# EAGLE library part CON-DB9M (library Mechanical)
Male DB-9, DTE
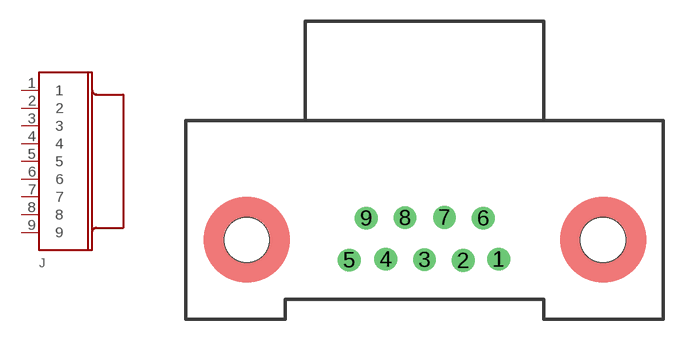
[diagram p15: symbol with the pads of CON-DB9M; footprint CON-DB9M]

Designator prefix J

## CON-DB9M  [CON-DB9M]
1  1  pas
2  2  pas
3  3  pas
4  4  pas
5  5  pas
6  6  pas
7  7  pas
8  8  pas
9  9  pas

## Footprint CON-DB9M (pad centres in mm)
drill 1.067: 1 5.214,0.03; 2 2.714,-0.061; 3 0,0; 4 -2.714,0.031; 5 -5.29,-0.031; 6 4.129,2.915; 7 1.407,2.977; 8 -1.376,2.946; 9 -4.098,2.915
hole 3.175 at -12.481,1.397
hole 3.175 at 12.542,1.397